# EAGLE library part AQW6* (library relay)
PhotoMOS Relay NAiS Source: http://www.mew-europe.com/.. pti_en.pdf
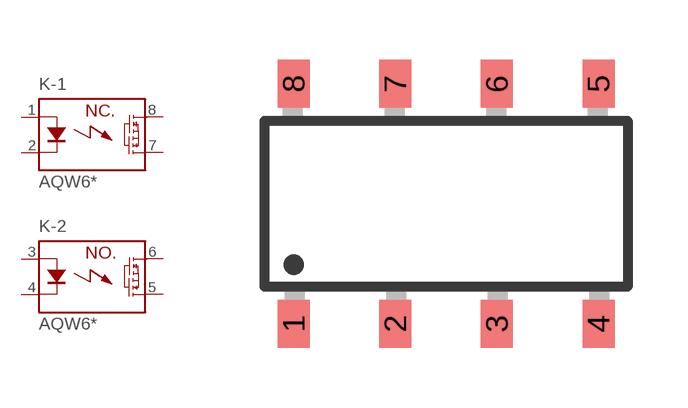
[diagram p40: symbol with the pads of SOP08; footprint SOP08]

Designator prefix K; gates -1=PHOTOMOS_2D_NC -2=PHOTOMOS_2D_NO

## AQW61SOP (OC_FARNELL: unknown; OC_NEWARK: unknown)  [SOP08]
1  -1:A  pas
2  -1:K  pas
3  -2:A  pas
4  -2:K  pas
5  -2:DS2  pas
6  -2:DS1  pas
7  -1:DS2  pas
8  -1:DS1  pas

## Footprint SOP08 (pad centres in mm)
SOP 08 - AQW21, AQW61 Series NAiS Source: http://www.mew-europe.com/.. pti_en.pdf
smd 0.8 x 1.2: 1 -3.81,-3; 2 -1.27,-3; 3 1.27,-3; 4 3.81,-3; 5 3.81,3; 6 1.27,3; 7 -1.27,3; 8 -3.81,3